# Altium footprint library OltestLib.PcbLib: 98 footprints (part 7 of 7)
Each footprint in its own frame and in the unit in brackets; x right, y up, seen from the top. Pads: shape width x height; smd on the part's side, far side on the other; paste and mask are expansions set on the pad; w line width, h text height; cw(c..) or ccw(c..) is an arc to the next point about the centre after c.
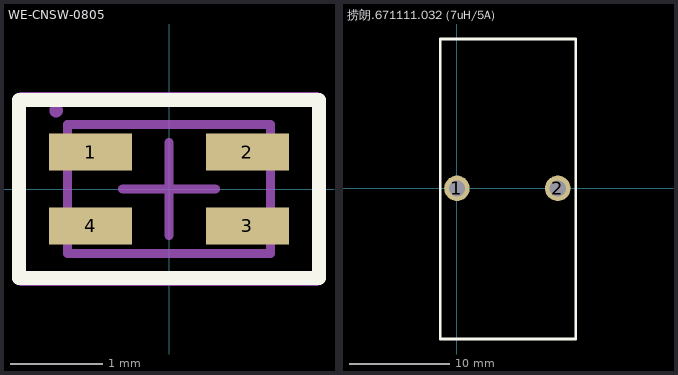
[diagram p6: the footprints below, top view; thin cyan lines are the x and y axes]

## WE-CNSW-0805 [mm] "SMD Inductor, 4-Leads, Body 1.4x2.2x1.4 mm"
height 1.4
pads (4):
  rect 0.9x0.4 smd: 1(-0.85,0.4) 2(0.85,0.4) 3(0.85,-0.4) 4(-0.85,-0.4)
Top Overlay:
  lines w0.152: -1.626,-0.965 -1.626,0.965 1.626,0.965 1.626,-0.965 -1.626,-0.965
Mechanical 13:
  circle w0.1: c-1.224,0.85 r0.024
  lines w0.1: -1.1,-0.7 1.1,-0.7 1.1,0.7 -1.1,0.7 -1.1,-0.7
Mechanical 15:
  lines w0.1: -0.5,0 0.5,0 ; 0,-0.5 0,0.5 ; -1.6,-1 1.6,-1 1.6,1 -1.6,1 -1.6,-1
3D body "744231371.stp": height 1.18, standoff -0.02, extent -1,-0.6 1,0.6

## 捞朗.671111.032 (7uH/5A) [mil]
pads (2):
  round 100 hole 63: 1(0,0) 2(395,0)
Top Overlay:
  lines w10: -65,-590 -65,-585 -65,550 -65,585 455,585 465,585 465,-575 465,-590 -65,-590
3D body: height 455, standoff 0, extent -104.98,-314.98 524.98,314.98
3D body: height 1120, standoff 0, extent -25,-564.85 430,554.85